# Altium footprint library BLE_Keyboard_V2.PcbLib: 4 footprints
Each footprint in its own frame and in the unit in brackets; x right, y up, seen from the top. Pads: shape width x height; smd on the part's side, far side on the other; paste and mask are expansions set on the pad; w line width, h text height; cw(c..) or ccw(c..) is an arc to the next point about the centre after c.
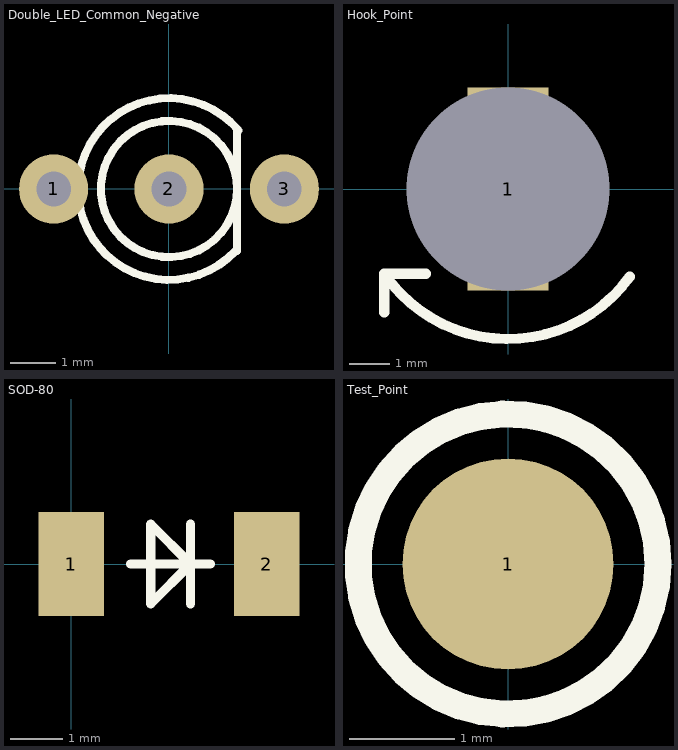
[diagram p0: the footprints below, top view; thin cyan lines are the x and y axes]

## Double_LED_Common_Negative [mil]
pads (3):
  round 60 hole 30: 1(-100,0) 2(0,0) 3(100,0)
Top Overlay:
  circle w7: c0,0 r59.06
  lines w7: 57.62,-53.66 cw(c0,0) 60.09,50.88 ; 59.06,-53.66 59.06,0 59.06,50
3D body "User Library-3mmBiColorLED.SLDPRT": height 232.56, standoff -103.39, extent -110,-79.68 110,79.68

## Hook_Point [mm]
pads (1):
  rect 2x5 hole 5 square: 1(0,0)
Top Overlay:
  lines w0.254: -3.056,-3.048 -3.056,-2.091 ; -2.032,-2.091 -3.056,-2.091 ; 3.005,-2.163 cw(c0,0) -3.056,-2.091

## SOD-80 [mm]
pads (2):
  rect 1.25x2 smd: 1(0,0) 2(3.75,0)
Top Overlay:
  lines w0.178: 1.143,0 2.667,0 ; 2.286,-0.762 2.286,0.762 ; 1.524,-0.762 1.524,0.508 1.524,0.762 2.286,0 1.524,-0.762
3D body "User Library-Diode MELF.SLDPRT": height 1.55, standoff 0.05, extent 0.155,-0.75 3.655,0.749

## Test_Point [mm]
pads (1):
  round 2 smd: 1(0,0)
Top Overlay:
  circle w0.254: c0,0 r1.42